# EAGLE library part ROS-2150VW (library MSA_lib)
Voltage controlled oscilator
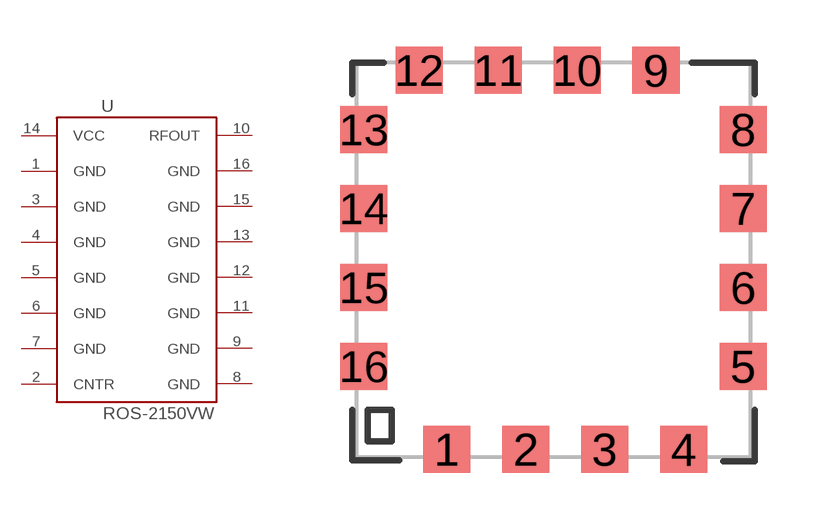
[diagram p13: symbol with the pads of ROS-2150VW; footprint ROS-2150VW]

Designator prefix U

## ROS-2150VW (VENDOR: minicirquits)  [ROS-2150VW]
1  GND
2  CNTR
3  GND
4  GND
5  GND
6  GND
7  GND
8  GND
9  GND
10  RFOUT
11  GND
12  GND
13  GND
14  VCC
15  GND
16  GND

## Footprint ROS-2150VW (pad centres in mm)
smd 1.52 x 1.52: 1 0,0; 2 2.54,0; 3 5.08,0; 4 7.62,0; 5 9.53,2.67; 6 9.53,5.21; 7 9.53,7.75; 8 9.53,10.29; 9 6.73,12.2; 10 4.19,12.2; 11 1.65,12.2; 12 -0.89,12.2; 13 -2.67,10.29; 14 -2.67,7.75; 15 -2.67,5.21; 16 -2.67,2.67